# Altium footprint library BreakoutPin 0603.PcbLib: 1 footprints
Each footprint in its own frame and in the unit in brackets; x right, y up, seen from the top. Pads: shape width x height; smd on the part's side, far side on the other; paste and mask are expansions set on the pad; w line width, h text height; cw(c..) or ccw(c..) is an arc to the next point about the centre after c.
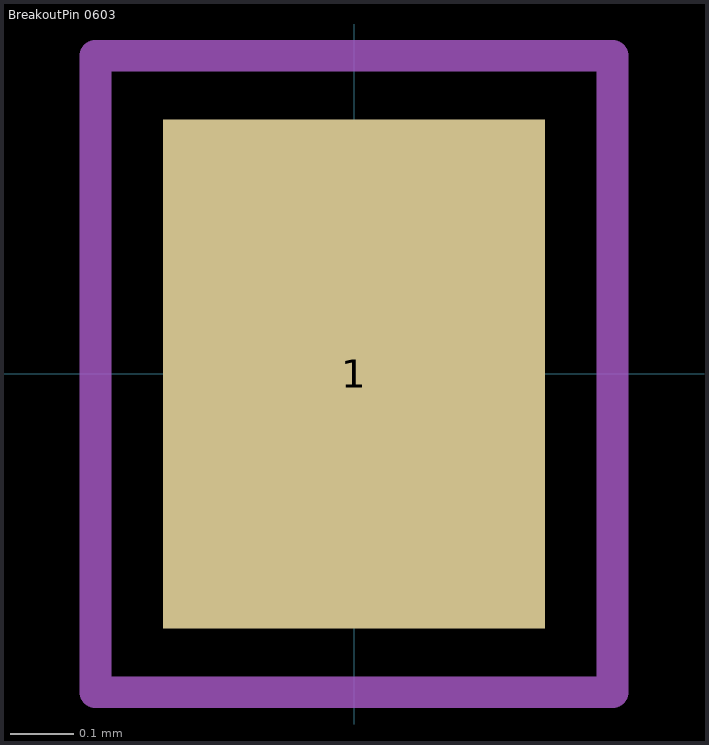
[diagram p0: the footprint, top view; thin cyan lines are the x and y axes]

## BreakoutPin 0603 [mm] "Exposed 0603 pad for IC breakouts"
height 0.6
pads (1):
  rect 0.6x0.8 smd mask+0.1: 1(0,0)
Mechanical 15:
  lines w0.05: -0.406,-0.5 0.406,-0.5 0.406,0.5 -0.406,0.5 -0.406,-0.5